# EAGLE library part PROG-JIG-PRO (library shrew-core)
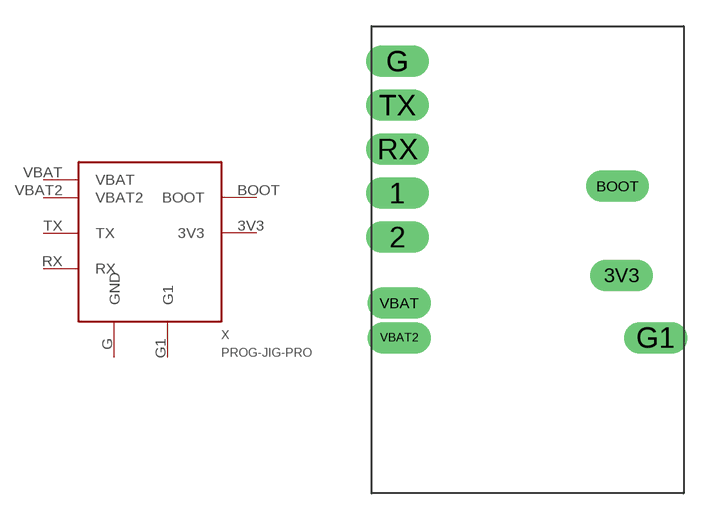
[diagram p9: symbol with the pads of PROG-JIG-PRO; footprint PROG-JIG-PRO]

Designator prefix X

## PROG-JIG-PRO  [PROG-JIG-PRO]
3V3  3V3
BOOT  BOOT
G  GND
G1  G1
RX  RX
TX  TX
VBAT  VBAT
VBAT2  VBAT2

## Footprint PROG-JIG-PRO (pad centres in mm)
drill 0.6 pad 1.829 long: 1 1.5,17.34; 2 1.5,14.8; 3V3 14.43,12.6; BOOT 14.2,17.75; G 1.5,24.96; G1 16.4,9; RX 1.5,19.88; TX 1.5,22.42; VBAT 1.6,11; VBAT2 1.6,9